# Altium footprint library Crazy_PCB.PcbLib: 126 footprints (part 8 of 8)
Each footprint in its own frame and in the unit in brackets; x right, y up, seen from the top. Pads: shape width x height; smd on the part's side, far side on the other; paste and mask are expansions set on the pad; w line width, h text height; cw(c..) or ccw(c..) is an arc to the next point about the centre after c.
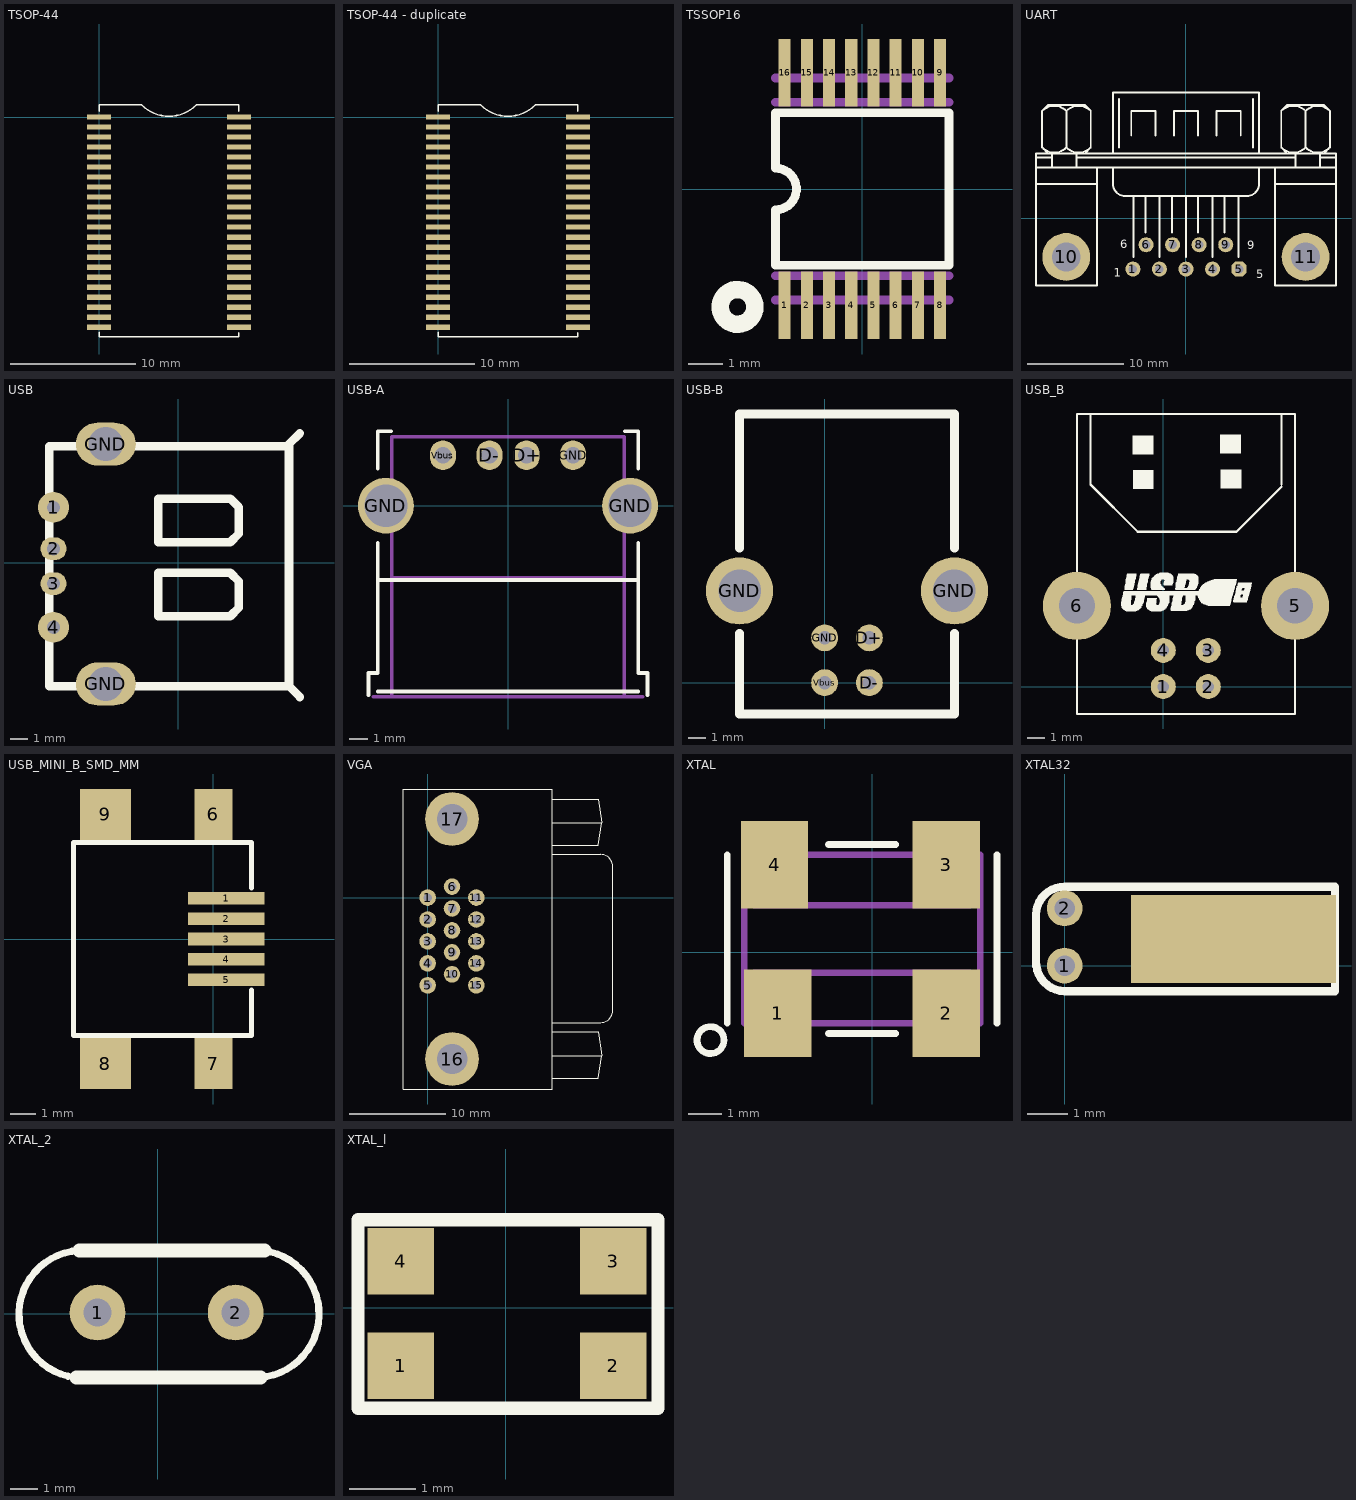
[diagram p7: the footprints below, top view; thin cyan lines are the x and y axes]

## TSOP-44 [mil]
pads (44):
  rect 75x17 smd: 1(0,0) 2(0,-31.5) 3(0,-63) 4(0,-94.5) 5(0,-126) 6(0,-157.5) 7(0,-189) 8(0,-220.5) 9(0,-252) 10(0,-283.5) 11(0,-315) 12(0,-346.5) 13(0,-378) 14(0,-409.5) 15(0,-441) 16(0,-472.5) 17(0,-504) 18(0,-535.5) 19(0,-567) 20(0,-598.5) 21(0,-630) 22(0,-661.5) 23(440,-661.5) 24(440,-630) 25(440,-598.5) 26(440,-567) 27(440,-535.5) 28(440,-504) 29(440,-472.5) 30(440,-441) 31(440,-409.5) 32(440,-378) 33(440,-346.5) 34(440,-315) 35(440,-283.5) 36(440,-252) 37(440,-220.5) 38(440,-189) 39(440,-157.5) 40(440,-126) 41(440,-94.5) 42(440,-63) 43(440,-31.5) 44(440,0)
Top Overlay:
  lines w5: 0,-678 0,-692 440,-692 440,-680 ; 0,18 0,38 134,38 ccw(c220,124) 306,38 440,38 440,18

## TSOP-44 - duplicate [mil]
pads (44):
  rect 75x17 smd: 1(0,0) 2(0,-31.5) 3(0,-63) 4(0,-94.5) 5(0,-126) 6(0,-157.5) 7(0,-189) 8(0,-220.5) 9(0,-252) 10(0,-283.5) 11(0,-315) 12(0,-346.5) 13(0,-378) 14(0,-409.5) 15(0,-441) 16(0,-472.5) 17(0,-504) 18(0,-535.5) 19(0,-567) 20(0,-598.5) 21(0,-630) 22(0,-661.5) 23(440,-661.5) 24(440,-630) 25(440,-598.5) 26(440,-567) 27(440,-535.5) 28(440,-504) 29(440,-472.5) 30(440,-441) 31(440,-409.5) 32(440,-378) 33(440,-346.5) 34(440,-315) 35(440,-283.5) 36(440,-252) 37(440,-220.5) 38(440,-189) 39(440,-157.5) 40(440,-126) 41(440,-94.5) 42(440,-63) 43(440,-31.5) 44(440,0)
Top Overlay:
  lines w5: 0,-678 0,-692 440,-692 440,-680 ; 0,18 0,38 134,38 ccw(c220,124) 306,38 440,38 440,18

## TSSOP16 [mm]
pads (16):
  rect 0.35x1.95 smd: 1(-2.24,-3.35) 2(-1.6,-3.35) 3(-0.96,-3.35) 4(-0.32,-3.35) 5(0.32,-3.35) 6(0.96,-3.35) 7(1.6,-3.35) 8(2.24,-3.35) 9(2.24,3.35) 10(1.6,3.35) 11(0.96,3.35) 12(0.32,3.35) 13(-0.32,3.35) 14(-0.96,3.35) 15(-1.6,3.35) 16(-2.24,3.35)
Top Overlay:
  circle w0.5: c-3.6,-3.4 r0.5
  lines w0.254: -2.5,-2.2 -2.5,-0.6 ccw(c-2.5,0) -2.5,0.6 -2.5,2.2 2.5,2.2 2.5,-2.2 -2.5,-2.2
Mechanical 2:
  lines w0.254: -2.5,-3.2 2.5,-3.2 ; -2.5,-2.5 2.5,-2.5 ; -2.5,2.5 2.5,2.5 ; -2.5,3.2 2.5,3.2

## UART [mil]
pads (11):
  round 62 hole 35: 1(-218.28,-209.25) 2(-109.11,-209.25) 3(0.05,-209.25) 4(109.22,-209.25) 6(-164.11,-109.25) 7(-54.95,-109.25) 8(54.22,-109.25) 9(163.39,-109.25)
  oct 62x62 hole 35: 5(218.39,-209.25)
  round 196.67 hole 118.33: 10(-492.45,-159.25) 11(491.72,-159.25)
Top Overlay:
  lines w8: -616.61,140.75 -366.61,140.75 ; -616.61,207.41 616.72,207.41 ; -616.61,249.08 -549.95,249.08 ; -591.7,290.66 ccw(c-541.61,340.75) -491.53,290.66 ; -591.7,440.83 cw(c-541.61,390.75) -491.53,440.83 ; -566.61,265.75 -591.61,290.75 -591.61,440.75 -566.61,465.75 -416.61,465.75 -391.61,440.75 -391.61,290.75 -416.61,265.75 ; -549.95,207.41 -549.95,265.75 ; -491.7,290.66 ccw(c-441.61,340.75) -391.53,290.66 ; -491.7,440.83 cw(c-441.61,390.75) -391.53,440.83 ; -491.61,290.75 -491.61,440.75 ; -449.95,207.41 -449.95,265.75 ; -449.95,249.08 450.05,249.08 ; -366.61,207.41 -366.61,-275.92 -616.61,-275.92 -616.61,265.75 616.72,265.75 616.72,-275.92 366.72,-275.92 366.72,207.41 ; -299.95,207.41 -299.95,140.75 ccw(c-249.95,140.75) -249.95,90.75 250.05,90.75 ccw(c250.05,140.75) 300.05,140.75 300.05,207.41 ; -299.95,265.75 -299.95,515.75 300.05,515.75 300.05,265.75 ; -274.95,290.75 -274.95,490.75 ; -224.95,340.75 -224.95,440.75 -124.95,440.75 -124.95,340.75 ; -216.61,-159.25 -216.61,90.75 ; -166.61,-59.25 -166.61,90.75 ; -108.28,-159.25 -108.28,90.75 ; -58.28,-59.25 -58.28,90.75 ; -49.95,340.75 -49.95,440.75 50.05,440.75 50.05,340.75 ; 0.05,-159.25 0.05,90.75 ; 50.05,-59.25 50.05,90.75 ; 108.39,-159.25 108.39,90.75 ; 125.05,340.75 125.05,440.75 225.05,440.75 225.05,340.75 ; 158.39,-59.25 158.39,90.75 ; 216.72,-159.25 216.72,90.75 ; 275.05,290.75 275.05,490.75 ; 366.72,140.75 616.72,140.75 ; 391.63,290.66 ccw(c441.72,340.75) 491.81,290.66 ; 391.63,440.83 cw(c441.72,390.75) 491.81,440.83 ; 416.72,265.75 391.72,290.75 391.72,440.75 416.72,465.75 566.72,465.75 591.72,440.75 591.72,290.75 566.72,265.75 ; 450.05,207.41 450.05,265.75 ; 491.63,290.66 ccw(c541.72,340.75) 591.81,290.66 ; 491.63,440.83 cw(c541.72,390.75) 591.81,440.83 ; 491.72,290.75 491.72,440.75 ; 550.05,207.41 550.05,265.75 ; 550.05,249.08 616.72,249.08
  text "1" at -296.18,-241.54 h35
  text "6" at -270.2,-124.61 h35
  text "5" at 289.25,-247.44 h35
  text "9" at 251.85,-127.76 h35

## USB [mm]
pads (6):
  round 1.8 hole 0.762: 1(-7.255,3.228) 4(-7.255,-3.757)
  oval 1.524x1.324 hole 0.762: 2(-7.255,0.815) 3(-7.255,-1.217)
  oval 3.5x2.5 hole 2: GND(-4.207,-7.059) GND(-4.207,6.911)
Top Overlay:
  lines w0.5: -7.509,-7.186 -7.509,6.784 6.461,6.784 ; -7.382,-7.186 6.461,-7.186 ; -1.159,-3.122 -1.159,-0.582 3.032,-0.582 3.54,-1.09 3.54,-1.217 ; -1.159,1.196 -1.159,3.736 3.032,3.736 3.54,3.228 3.54,3.101 ; -1.032,-3.122 3.032,-3.122 3.54,-2.614 3.54,-1.344 ; -1.032,1.196 3.032,1.196 3.54,1.704 3.54,2.974 ; 7.096,-7.821 6.461,-7.186 ; 7.096,7.546 6.461,6.911 6.461,6.784 ; 6.461,-7.186 6.461,6.784

## USB-A [mm]
pads (6):
  oval 1.4x1.6 hole 0.9: D+(1,2.71) D-(-1,2.71) GND(3.5,2.71) Vbus(-3.5,2.71)
  round 3 hole 2.3: GND(-6.57,0) GND(6.57,0)
Top Overlay:
  lines w0.2: -7.5,-10.2 -7.5,-9 -7,-9 -7,-2 ; -7,-10 7,-10 ; -7,-4 7,-4 ; -7,2 -7,4 -6.3,4 ; 6.3,4 7,4 7,2 ; 7,-2 7,-9 7.5,-9 7.5,-10.2
Mechanical 1:
  lines w0.2: -7.25,-10.28 7.25,-10.28 ; -6.25,-10.28 -6.25,3.71 6.25,3.71 6.25,-10.28 ; -6.25,-3.88 6.25,-3.88

## USB-B [mil]
pads (6):
  round 60 hole 30: D+(100,100) D-(100,0) GND(0,100) Vbus(0,0)
  round 150 hole 95: GND(-190,205) GND(290,205)
Top Overlay:
  lines w19.68: -190,110 -190,-70 0,-70 290,-70 290,110 ; -190,300 -190,600 290,600 290,300

## USB_B [mil]
pads (6):
  round 55 hole 25: 1(0,0) 2(99,0) 3(99,79.74) 4(0,79.74)
  round 150 hole 78.74: 5(290,177.74) 6(-190,177.74)
Top Overlay:
  drawing of 1016 lines, arcs and shapes, not listed

## USB_MINI_B_SMD_MM [mm]
pads (9):
  rect 3x0.5 smd: 1(0.5,1.6) 2(0.5,0.8) 3(0.5,0) 4(0.5,-0.8) 5(0.5,-1.6)
  rect 1.5x2 smd: 6(0,4.9) 7(0,-4.9)
  rect 2x2 smd: 8(-4.25,-4.9) 9(-4.25,4.9)
Top Overlay:
  lines w0.2: 1.5,-2 1.5,-3.8 -5.5,-3.8 -5.5,3.8 1.5,3.8 1.5,2

## VGA [mil]
pads (17):
  round 68 hole 35: 1(0,0) 2(0,-90) 3(0,-180) 4(0,-270) 5(0,-360) 6(100,45) 7(100,-45) 8(100,-135) 9(100,-225) 10(100,-315) 11(200,0) 12(200,-90) 13(200,-180) 14(200,-270) 15(200,-360)
  round 220 hole 125: 16(100,-662) 17(100,322)
Top Overlay:
  lines w5: 510,-504 510,136 ; 510.24,441 510.24,445 ; 511,-740 699,-740 713,-648 ; 511,-648 713,-648 ; 511,-550 699,-550 713,-648 ; 511,-512.49 709,-512.49 ccw(c709,-462.49) 759,-462.49 759,126.49 ccw(c709,126.49) 709,176.49 511,176.49 ; 511,214 699,214 713,306 ; 511,306 713,306 ; 511,404 699,404 713,306 ; 510.24,445 -100,445 -100,-785 510.24,-785 510.24,445

## XTAL [mm]
pads (4):
  rect 2x2.6 smd: 1(-2.794,-1.808) 2(2.206,-1.808) 3(2.206,2.592) 4(-2.894,2.592)
Top Overlay:
  circle w0.2: c-4.794,-2.608 r0.4
  lines w0.2: -4.294,-2.108 -4.294,2.892 ; -1.294,-2.408 0.706,-2.408 ; -1.294,3.192 0.706,3.192 ; 3.706,-2.108 3.706,2.892
Mechanical 1:
  lines w0.2: -3.494,-2.108 -3.494,-0.908 -2.094,-0.908 -2.094,-2.108 ; -3.494,-0.608 2.906,-0.608 ; -3.494,1.392 2.906,1.392 ; -3.494,2.892 -3.494,1.692 -2.094,1.692 -2.094,2.892 ; 1.506,-2.108 1.506,-0.908 2.906,-0.908 2.906,-2.108 ; 1.506,2.892 1.506,1.692 2.906,1.692 2.906,2.892 ; -3.794,-2.108 3.206,-2.108 3.206,2.892 -3.794,2.892 -3.794,-2.108

## XTAL32 [mil]
pads (3):
  round 35 hole 20: 1(0,0) 2(0,56)
  rect 200x86 smd: ""(165,26)
Top Overlay:
  lines w8: -28,4 ccw(c0.5,3.5) 0,-25 264,-25 264,77 0,77 ccw(c-0.5,49.5) -28,50 -28,4

## XTAL_2 [mm]
pads (2):
  round 2 hole 1: 1(-2.157,0.035) 2(2.796,0.035)
Top Overlay:
  lines w0.254: -2.956,-2.294 cw(c-2.688,-0.02) -2.815,2.266 ; 3.625,-2.296 ccw(c3.498,-0.01) 3.766,2.264
  lines w0.5: -2.922,-2.289 3.682,-2.289 ; -2.815,2.266 3.84,2.266

## XTAL_l [mm]
pads (4):
  rect 1x1 smd: 1(-1.58,-0.87) 2(1.62,-0.87) 3(1.62,0.7) 4(-1.58,0.7)
Top Overlay:
  lines w0.2: -2.22,-1.51 2.29,-1.51 2.29,1.32 -2.22,1.32 -2.22,-1.51